# Altium schematic symbol library PCA9450BHNY.SchLib: 1 symbol
Pins are listed as number, name and electrical type; pins without a type are passive.

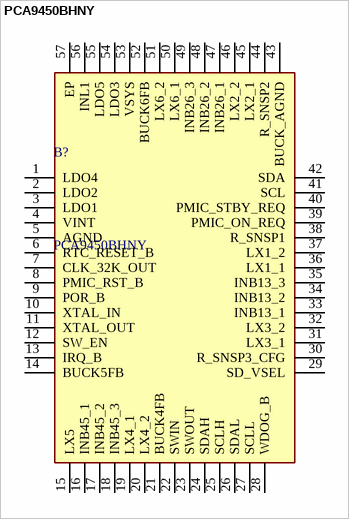
[diagram p0: symbol PCA9450BHNY]

## PCA9450BHNY
designator B?
Power Management Specialized - PMIC Power Manage IC (PMIC) for i.MX 8M Nano; Manufacturer_Name: NXP; Geometry.Height: 1mm; Mouser Part Number: 771-PCA9450BHNY; Mouser Price/Stock: https://www.mouser.co.uk/ProductDetail/NXP-Semiconductors/PCA9450BHNY?qs=Cb2nCFKsA8rwtiYebomP2w%3D%3D; Manufacturer_Part_Number: PCA9450BHNY; Datasheet Link: https://www.nxp.com/docs/en/data-sheet/PCA9450DS.pdf
footprint QFN40P700X700X100-57N-D
pins: 1 LDO4, 2 LDO2, 3 LDO1, 4 VINT, 5 AGND, 6 RTC_RESET_B, 7 CLK_32K_OUT, 8 PMIC_RST_B, 9 POR_B, 10 XTAL_IN, 11 XTAL_OUT, 12 SW_EN, 13 IRQ_B, 14 BUCK5FB, 15 LX5, 16 INB45_1, 17 INB45_2, 18 INB45_3, 19 LX4_1, 20 LX4_2, 21 BUCK4FB, 22 SWIN, 23 SWOUT, 24 SDAH, 25 SCLH, 26 SDAL, 27 SCLL, 28 WDOG_B, 29 SD_VSEL, 30 R_SNSP3_CFG, 31 LX3_1, 32 LX3_2, 33 INB13_1, 34 INB13_2, 35 INB13_3, 36 LX1_1, 37 LX1_2, 38 R_SNSP1, 39 PMIC_ON_REQ, 40 PMIC_STBY_REQ, 41 SCL, 42 SDA, 43 BUCK_AGND, 44 R_SNSP2, 45 LX2_1, 46 LX2_2, 47 INB26_1, 48 INB26_2, 49 INB26_3, 50 LX6_1, 51 LX6_2, 52 BUCK6FB, 53 VSYS, 54 LDO3, 55 LDO5, 56 INL1, 57 EP